# Altium integrated library Maxim Interface, Interconnect and Signal Integrity.IntLib: 11 symbols
Pins are listed as number, name and electrical type; pins without a type are passive.

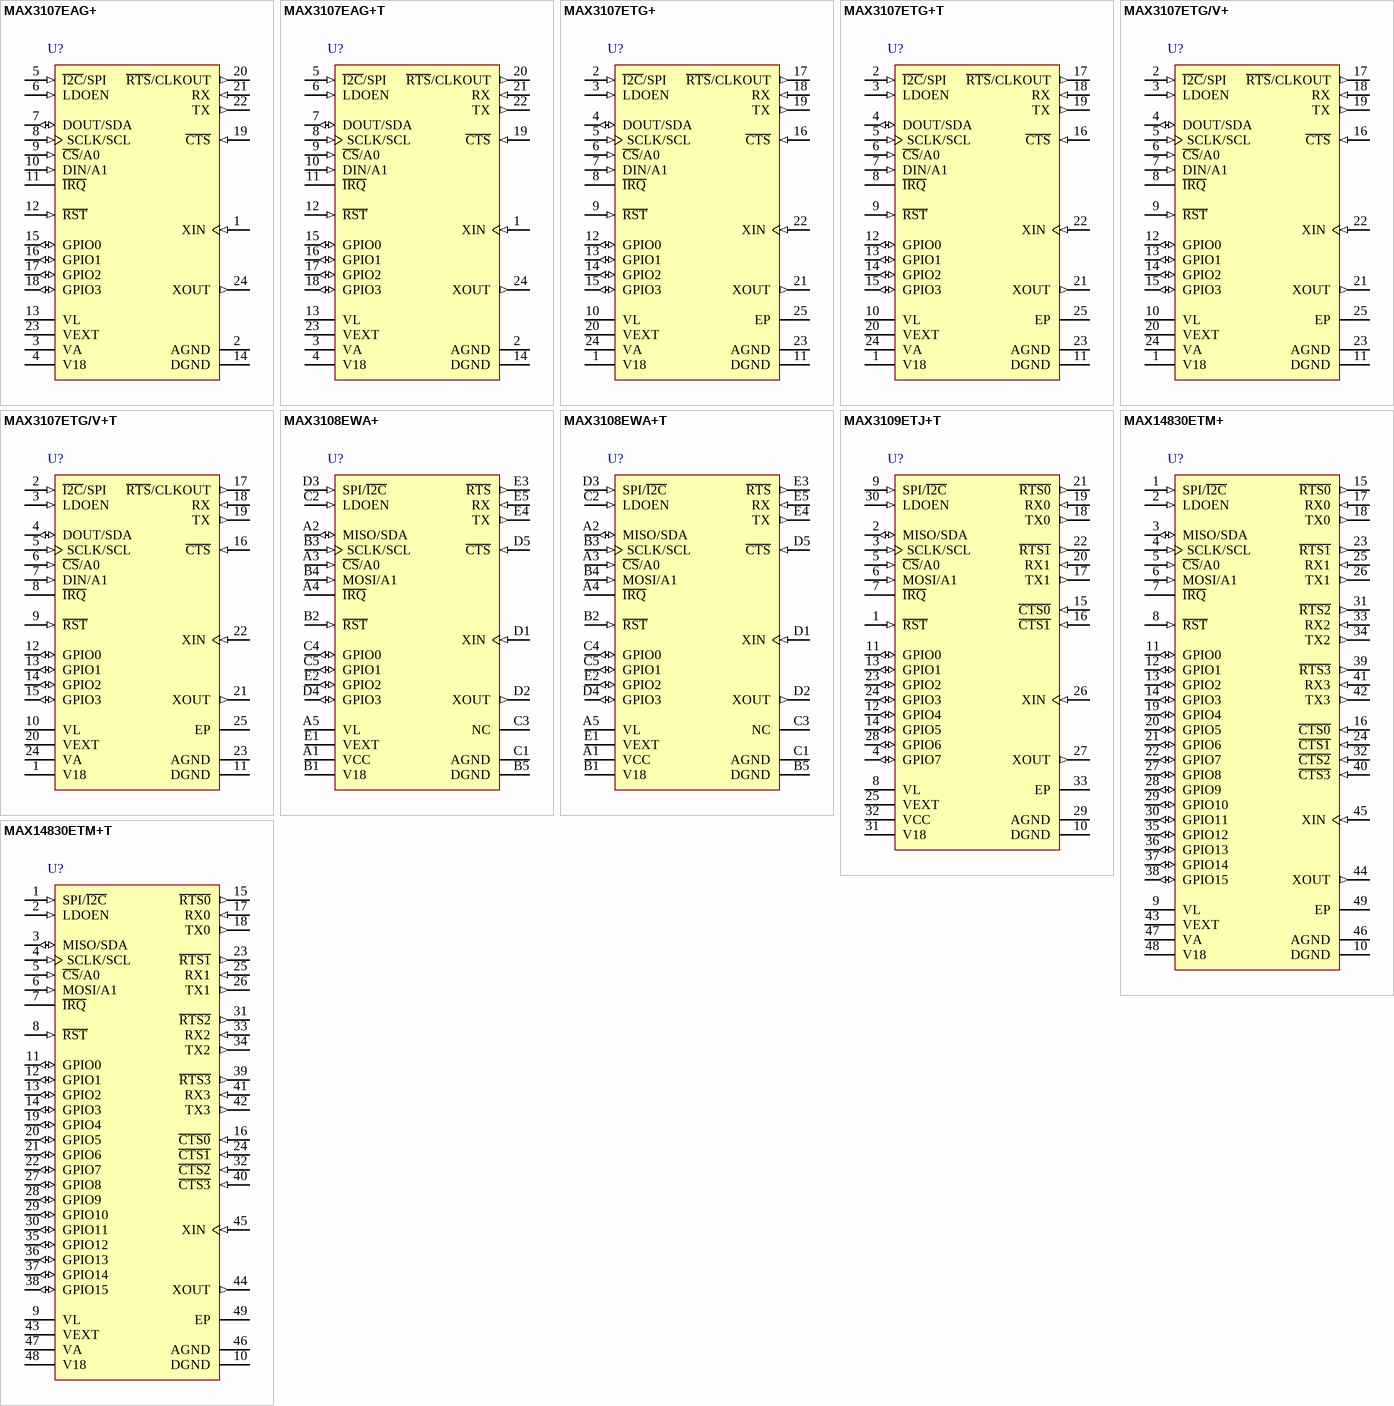
[diagram p0: symbols MAX3107EAG+ to MAX14830ETM+T]

## MAX3107EAG+
designator U?
SPI/I2C UART with 128-Word FIFO, 24-Pin SSOP, -40°C to +85°C, Pb-Free; DatasheetVersion: Rev 3, Aug-2011; PackageVersion: revC, 2010; PackageReference: A24+1; PackageDescription: 24-Pin Shrink Small-Outline Package (SSOP), 5.3 mm Body, 0.65 mm Pitch, Pb-Free; Code_JEDEC: MO-150-AG; ComponentLink1Description: Manufacturer URL; ComponentLink1URL: http://www.maxim-ic.com; ComponentLink2Description: Datasheet; ComponentLink2URL: http://datasheets.maxim-ic.com/en/ds/MAX3107.pdf; ComponentLink3Description: Package Specification; ComponentLink3URL: http://pdfserv.maxim-ic.com/package_dwgs/21-0056.PDF
footprint A24+1_N (SOP, 24-Leads, Body 8.2x5.3mm, Pitch 0.65mm, IPC Medium Density)
footprint A24+1_L (SOP, 24-Leads, Body 8.2x5.3mm, Pitch 0.65mm, IPC High Density)
footprint A24+1_M (SOP, 24-Leads, Body 8.2x5.3mm, Pitch 0.65mm, IPC Low Density)
pins: 1 XIN (in), 2 AGND (power), 3 VA (power), 4 V18 (power), 5 ~{I2C}/SPI (in), 6 LDOEN (in), 7 DOUT/SDA (io), 8 SCLK/SCL (in), 9 ~{CS}/A0 (in), 10 DIN/A1 (in), 11 ~{IRQ} (oc), 12 ~{RST} (in), 13 VL (power), 14 DGND (power), 15 GPIO0 (io), 16 GPIO1 (io), 17 GPIO2 (io), 18 GPIO3 (io), 19 ~{CTS} (in), 20 ~{RTS}/CLKOUT (out), 21 RX (in), 22 TX (out), 23 VEXT (power), 24 XOUT (out)

## MAX3107EAG+T
designator U?
SPI/I2C UART with 128-Word FIFO, 24-Pin SSOP, -40°C to +85°C, Pb-Free, Tape and Reel; DatasheetVersion: Rev 3, Aug-2011; PackageVersion: revC, 2010; PackageReference: A24+1; PackageDescription: 24-Pin Shrink Small-Outline Package (SSOP), 5.3 mm Body, 0.65 mm Pitch, Pb-Free; Code_JEDEC: MO-150-AG; ComponentLink1Description: Manufacturer URL; ComponentLink1URL: http://www.maxim-ic.com; ComponentLink2Description: Datasheet; ComponentLink2URL: http://datasheets.maxim-ic.com/en/ds/MAX3107.pdf; ComponentLink3Description: Package Specification; ComponentLink3URL: http://pdfserv.maxim-ic.com/package_dwgs/21-0056.PDF
footprint A24+1_N (SOP, 24-Leads, Body 8.2x5.3mm, Pitch 0.65mm, IPC Medium Density)
footprint A24+1_L (SOP, 24-Leads, Body 8.2x5.3mm, Pitch 0.65mm, IPC High Density)
footprint A24+1_M (SOP, 24-Leads, Body 8.2x5.3mm, Pitch 0.65mm, IPC Low Density)
pins: 1 XIN (in), 2 AGND (power), 3 VA (power), 4 V18 (power), 5 ~{I2C}/SPI (in), 6 LDOEN (in), 7 DOUT/SDA (io), 8 SCLK/SCL (in), 9 ~{CS}/A0 (in), 10 DIN/A1 (in), 11 ~{IRQ} (oc), 12 ~{RST} (in), 13 VL (power), 14 DGND (power), 15 GPIO0 (io), 16 GPIO1 (io), 17 GPIO2 (io), 18 GPIO3 (io), 19 ~{CTS} (in), 20 ~{RTS}/CLKOUT (out), 21 RX (in), 22 TX (out), 23 VEXT (power), 24 XOUT (out)

## MAX3107ETG+
designator U?
SPI/I2C UART with 128-Word FIFO, 24-Pin TQFN, -40°C to +85°C, Pb-Free; DatasheetVersion: Rev 3, Aug-2011; PackageVersion: revC, 2010; PackageReference: T243A3+1; PackageDescription: 24-Pin Thin Quad Flatpack, No Leads, 3.5 x 3.5 x 0.75 mm Body, 0.4 mm Pitch, TQFN, Pb-Free; Code_JEDEC: MO-220*; ComponentLink1Description: Manufacturer URL; ComponentLink1URL: http://www.maxim-ic.com; ComponentLink2Description: Datasheet; ComponentLink2URL: http://datasheets.maxim-ic.com/en/ds/MAX3107.pdf; ComponentLink3Description: Package Specification; ComponentLink3URL: http://pdfserv.maxim-ic.com/package_dwgs/21-0188.PDF
footprint T243A3+1_N (QFN, 24-Leads, Body 3.5x3.5mm, Pitch 0.4mm, Thermal Pad 2.3x2.3mm, IPC Medium Density)
footprint T243A3+1_L (QFN, 24-Leads, Body 3.5x3.5mm, Pitch 0.4mm, Thermal Pad 2.3x2.3mm, IPC High Density)
footprint T243A3+1_M (QFN, 24-Leads, Body 3.5x3.5mm, Pitch 0.4mm, Thermal Pad 2.3x2.3mm, IPC Low Density)
pins: 1 V18 (power), 2 ~{I2C}/SPI (in), 3 LDOEN (in), 4 DOUT/SDA (io), 5 SCLK/SCL (in), 6 ~{CS}/A0 (in), 7 DIN/A1 (in), 8 ~{IRQ} (oc), 9 ~{RST} (in), 10 VL (power), 11 DGND (power), 12 GPIO0 (io), 13 GPIO1 (io), 14 GPIO2 (io), 15 GPIO3 (io), 16 ~{CTS} (in), 17 ~{RTS}/CLKOUT (out), 18 RX (in), 19 TX (out), 20 VEXT (power), 21 XOUT (out), 22 XIN (in), 23 AGND (power), 24 VA (power), 25 EP (power)

## MAX3107ETG+T
designator U?
SPI/I2C UART with 128-Word FIFO, 24-Pin TQFN, -40°C to +85°C, Pb-Free, Tape and Reel; DatasheetVersion: Rev 3, Aug-2011; PackageVersion: revC, 2010; PackageReference: T243A3+1; PackageDescription: 24-Pin Thin Quad Flatpack, No Leads, 3.5 x 3.5 x 0.75 mm Body, 0.4 mm Pitch, TQFN, Pb-Free; Code_JEDEC: MO-220*; ComponentLink1Description: Manufacturer URL; ComponentLink1URL: http://www.maxim-ic.com; ComponentLink2Description: Datasheet; ComponentLink2URL: http://datasheets.maxim-ic.com/en/ds/MAX3107.pdf; ComponentLink3Description: Package Specification; ComponentLink3URL: http://pdfserv.maxim-ic.com/package_dwgs/21-0188.PDF
footprint T243A3+1_N (QFN, 24-Leads, Body 3.5x3.5mm, Pitch 0.4mm, Thermal Pad 2.3x2.3mm, IPC Medium Density)
footprint T243A3+1_L (QFN, 24-Leads, Body 3.5x3.5mm, Pitch 0.4mm, Thermal Pad 2.3x2.3mm, IPC High Density)
footprint T243A3+1_M (QFN, 24-Leads, Body 3.5x3.5mm, Pitch 0.4mm, Thermal Pad 2.3x2.3mm, IPC Low Density)
pins: 1 V18 (power), 2 ~{I2C}/SPI (in), 3 LDOEN (in), 4 DOUT/SDA (io), 5 SCLK/SCL (in), 6 ~{CS}/A0 (in), 7 DIN/A1 (in), 8 ~{IRQ} (oc), 9 ~{RST} (in), 10 VL (power), 11 DGND (power), 12 GPIO0 (io), 13 GPIO1 (io), 14 GPIO2 (io), 15 GPIO3 (io), 16 ~{CTS} (in), 17 ~{RTS}/CLKOUT (out), 18 RX (in), 19 TX (out), 20 VEXT (power), 21 XOUT (out), 22 XIN (in), 23 AGND (power), 24 VA (power), 25 EP (power)

## MAX3107ETG/V+
designator U?
SPI/I2C UART with 128-Word FIFO, Automotive Qualified, 24-Pin TQFN, -40°C to +85°C, Pb-Free; DatasheetVersion: Rev 3, Aug-2011; PackageVersion: revC, 2010; PackageReference: T243A3+1; PackageDescription: 24-Pin Thin Quad Flatpack, No Leads, 3.5 x 3.5 x 0.75 mm Body, 0.4 mm Pitch, TQFN, Pb-Free; Code_JEDEC: MO-220*; ComponentLink1Description: Manufacturer URL; ComponentLink1URL: http://www.maxim-ic.com; ComponentLink2Description: Datasheet; ComponentLink2URL: http://datasheets.maxim-ic.com/en/ds/MAX3107.pdf; ComponentLink3Description: Package Specification; ComponentLink3URL: http://pdfserv.maxim-ic.com/package_dwgs/21-0188.PDF
footprint T243A3+1_N (QFN, 24-Leads, Body 3.5x3.5mm, Pitch 0.4mm, Thermal Pad 2.3x2.3mm, IPC Medium Density)
footprint T243A3+1_L (QFN, 24-Leads, Body 3.5x3.5mm, Pitch 0.4mm, Thermal Pad 2.3x2.3mm, IPC High Density)
footprint T243A3+1_M (QFN, 24-Leads, Body 3.5x3.5mm, Pitch 0.4mm, Thermal Pad 2.3x2.3mm, IPC Low Density)
pins: 1 V18 (power), 2 ~{I2C}/SPI (in), 3 LDOEN (in), 4 DOUT/SDA (io), 5 SCLK/SCL (in), 6 ~{CS}/A0 (in), 7 DIN/A1 (in), 8 ~{IRQ} (oc), 9 ~{RST} (in), 10 VL (power), 11 DGND (power), 12 GPIO0 (io), 13 GPIO1 (io), 14 GPIO2 (io), 15 GPIO3 (io), 16 ~{CTS} (in), 17 ~{RTS}/CLKOUT (out), 18 RX (in), 19 TX (out), 20 VEXT (power), 21 XOUT (out), 22 XIN (in), 23 AGND (power), 24 VA (power), 25 EP (power)

## MAX3107ETG/V+T
designator U?
SPI/I2C UART with 128-Word FIFO, Automotive Qualified, 24-Pin TQFN, -40°C to +85°C, Pb-Free, Tape and Reel; DatasheetVersion: Rev 3, Aug-2011; PackageVersion: revC, 2010; PackageReference: T243A3+1; PackageDescription: 24-Pin Thin Quad Flatpack, No Leads, 3.5 x 3.5 x 0.75 mm Body, 0.4 mm Pitch, TQFN, Pb-Free; Code_JEDEC: MO-220*; ComponentLink1Description: Manufacturer URL; ComponentLink1URL: http://www.maxim-ic.com; ComponentLink2Description: Datasheet; ComponentLink2URL: http://datasheets.maxim-ic.com/en/ds/MAX3107.pdf; ComponentLink3Description: Package Specification; ComponentLink3URL: http://pdfserv.maxim-ic.com/package_dwgs/21-0188.PDF
footprint T243A3+1_N (QFN, 24-Leads, Body 3.5x3.5mm, Pitch 0.4mm, Thermal Pad 2.3x2.3mm, IPC Medium Density)
footprint T243A3+1_L (QFN, 24-Leads, Body 3.5x3.5mm, Pitch 0.4mm, Thermal Pad 2.3x2.3mm, IPC High Density)
footprint T243A3+1_M (QFN, 24-Leads, Body 3.5x3.5mm, Pitch 0.4mm, Thermal Pad 2.3x2.3mm, IPC Low Density)
pins: 1 V18 (power), 2 ~{I2C}/SPI (in), 3 LDOEN (in), 4 DOUT/SDA (io), 5 SCLK/SCL (in), 6 ~{CS}/A0 (in), 7 DIN/A1 (in), 8 ~{IRQ} (oc), 9 ~{RST} (in), 10 VL (power), 11 DGND (power), 12 GPIO0 (io), 13 GPIO1 (io), 14 GPIO2 (io), 15 GPIO3 (io), 16 ~{CTS} (in), 17 ~{RTS}/CLKOUT (out), 18 RX (in), 19 TX (out), 20 VEXT (power), 21 XOUT (out), 22 XIN (in), 23 AGND (power), 24 VA (power), 25 EP (power)

## MAX3108EWA+
designator U?
SPI/I2C UART with 128-Word FIFO, 25-Pin WLP, -40°C to +85°C, Pb-Free; DatasheetVersion: Rev 1, Feb-2011; PackageVersion: revE, Apr-2010; PackageReference: W252B2+1; PackageDescription: 25-Ball Wafer-Level Package 5x5 Bump, Full Array (WLP) 0.4 mm Pitch, Pb-Free; ComponentLink1Description: Manufacturer URL; ComponentLink1URL: http://www.maxim-ic.com; ComponentLink2Description: Datasheet; ComponentLink2URL: http://datasheets.maxim-ic.com/en/ds/MAX3108.pdf; ComponentLink3Description: Package Specification; ComponentLink3URL: http://pdfserv.maxim-ic.com/package_dwgs/21-0180.PDF
footprint W252B2+1 (BGA, 25-Leads, Body 2.07x2.07mm, Pitch 0.4mm)
pins: A1 VCC (power), A2 MISO/SDA (io), A3 ~{CS}/A0 (in), A4 ~{IRQ} (oc), A5 VL (power), B1 V18 (power), B2 ~{RST} (in), B3 SCLK/SCL (in), B4 MOSI/A1 (in), B5 DGND (power), C1 AGND (power), C2 LDOEN (in), C3 NC, C4 GPIO0 (io), C5 GPIO1 (io), D1 XIN (in), D2 XOUT (out), D3 SPI/~{I2C} (in), D4 GPIO3 (io), D5 ~{CTS} (in), E1 VEXT (power), E2 GPIO2 (io), E3 ~{RTS} (out), E4 TX (out), E5 RX (in)

## MAX3108EWA+T
designator U?
SPI/I2C UART with 128-Word FIFO, 25-Pin WLP, -40°C to +85°C, Pb-Free, Tape and Reel; DatasheetVersion: Rev 1, Feb-2011; PackageVersion: revE, Apr-2010; PackageReference: W252B2+1; PackageDescription: 25-Ball Wafer-Level Package 5x5 Bump, Full Array (WLP) 0.4 mm Pitch, Pb-Free; ComponentLink1Description: Manufacturer URL; ComponentLink1URL: http://www.maxim-ic.com; ComponentLink2Description: Datasheet; ComponentLink2URL: http://datasheets.maxim-ic.com/en/ds/MAX3108.pdf; ComponentLink3Description: Package Specification; ComponentLink3URL: http://pdfserv.maxim-ic.com/package_dwgs/21-0180.PDF
footprint W252B2+1 (BGA, 25-Leads, Body 2.07x2.07mm, Pitch 0.4mm)
pins: A1 VCC (power), A2 MISO/SDA (io), A3 ~{CS}/A0 (in), A4 ~{IRQ} (oc), A5 VL (power), B1 V18 (power), B2 ~{RST} (in), B3 SCLK/SCL (in), B4 MOSI/A1 (in), B5 DGND (power), C1 AGND (power), C2 LDOEN (in), C3 NC, C4 GPIO0 (io), C5 GPIO1 (io), D1 XIN (in), D2 XOUT (out), D3 SPI/~{I2C} (in), D4 GPIO3 (io), D5 ~{CTS} (in), E1 VEXT (power), E2 GPIO2 (io), E3 ~{RTS} (out), E4 TX (out), E5 RX (in)

## MAX3109ETJ+T
designator U?
Dual Serial UART with 128-Word FIFO, 32-Pin TQFN, -40°C to +85°C, Pb-Free, Tape and Reel; DatasheetVersion: Rev 0, Mar-2011; PackageVersion: revO, 2011; PackageReference: T3255+4; PackageDescription: 32-Pin Thin Quad Flatpack, No Leads, 5 x 5 x 0.75 mm Body, 0.5 mm Pitch, TQFN, Pb-Free; Code_JEDEC: MO-220-WHHD-2; ComponentLink1Description: Manufacturer URL; ComponentLink1URL: http://www.maxim-ic.com; ComponentLink2Description: Datasheet; ComponentLink2URL: http://datasheets.maxim-ic.com/en/ds/MAX3109.pdf; ComponentLink3Description: Package Specification; ComponentLink3URL: http://pdfserv.maxim-ic.com/package_dwgs/21-0140.PDF
footprint T3255+4_N (QFN, 32-Leads, Body 5x5mm, Pitch 0.5mm, Thermal Pad 3.2x3.2mm, IPC Medium Density)
footprint T3255+4_L (QFN, 32-Leads, Body 5x5mm, Pitch 0.5mm, Thermal Pad 3.2x3.2mm, IPC High Density)
footprint T3255+4_M (QFN, 32-Leads, Body 5x5mm, Pitch 0.5mm, Thermal Pad 3.2x3.2mm, IPC Low Density)
pins: 1 ~{RST} (in), 2 MISO/SDA (io), 3 SCLK/SCL (in), 4 GPIO7 (io), 5 ~{CS}/A0 (in), 6 MOSI/A1 (in), 7 ~{IRQ} (oc), 8 VL (power), 9 SPI/~{I2C} (in), 10 DGND (power), 11 GPIO0 (io), 12 GPIO4 (io), 13 GPIO1 (io), 14 GPIO5 (io), 15 ~{CTS0} (in), 16 ~{CTS1} (in), 17 TX1 (out), 18 TX0 (out), 19 RX0 (in), 20 RX1 (in), 21 ~{RTS0} (out), 22 ~{RTS1} (out), 23 GPIO2 (io), 24 GPIO3 (io), 25 VEXT (power), 26 XIN (in), 27 XOUT (out), 28 GPIO6 (io), 29 AGND (power), 30 LDOEN (in), 31 V18 (power), 32 VCC (power), 33 EP (power)

## MAX14830ETM+
designator U?
Quad Serial UART with 128-Word FIFO, 48-Pin TQFN, -40°C to +85°C, Pb-Free; DatasheetVersion: Rev 2, Sep-2011; PackageVersion: revI, 2009; PackageReference: T4877+3; PackageDescription: 48-Pin Thin Quad Flatpack, No Leads, 7 x 7 x 0.75 mm Body, 0.5 mm Pitch, TQFN, Pb-Free; ComponentLink1Description: Manufacturer URL; ComponentLink1URL: http://www.maxim-ic.com; ComponentLink2Description: Datasheet; ComponentLink2URL: http://datasheets.maxim-ic.com/en/ds/MAX14830.pdf; ComponentLink3Description: Package Specification; ComponentLink3URL: http://pdfserv.maxim-ic.com/package_dwgs/21-0144.PDF
footprint T4877+3_N (QFN, 48-Leads, Body 7x7mm, Pitch 0.5mm, Thermal Pad 5.3x5.3mm, IPC Medium Density)
footprint T4877+3_L (QFN, 48-Leads, Body 7x7mm, Pitch 0.5mm, Thermal Pad 5.3x5.3mm, IPC High Density)
footprint T4877+3_M (QFN, 48-Leads, Body 7x7mm, Pitch 0.5mm, Thermal Pad 5.3x5.3mm, IPC Low Density)
pins: 1 SPI/~{I2C} (in), 2 LDOEN (in), 3 MISO/SDA (io), 4 SCLK/SCL (in), 5 ~{CS}/A0 (in), 6 MOSI/A1 (in), 7 ~{IRQ} (oc), 8 ~{RST} (in), 9 VL (power), 10 DGND (power), 11 GPIO0 (io), 12 GPIO1 (io), 13 GPIO2 (io), 14 GPIO3 (io), 15 ~{RTS0} (out), 16 ~{CTS0} (in), 17 RX0 (in), 18 TX0 (out), 19 GPIO4 (io), 20 GPIO5 (io), 21 GPIO6 (io), 22 GPIO7 (io), 23 ~{RTS1} (out), 24 ~{CTS1} (in), 25 RX1 (in), 26 TX1 (out), 27 GPIO8 (io), 28 GPIO9 (io), 29 GPIO10 (io), 30 GPIO11 (io), 31 ~{RTS2} (out), 32 ~{CTS2} (in), 33 RX2 (in), 34 TX2 (out), 35 GPIO12 (io), 36 GPIO13 (io), 37 GPIO14 (io), 38 GPIO15 (io), 39 ~{RTS3} (out), 40 ~{CTS3} (in), 41 RX3 (in), 42 TX3 (out), 43 VEXT (power), 44 XOUT (out), 45 XIN (in), 46 AGND (power), 47 VA (power), 48 V18 (power), 49 EP (power)

## MAX14830ETM+T
designator U?
Quad Serial UART with 128-Word FIFO, 48-Pin TQFN, -40°C to +85°C, Pb-Free, Tape and Reel; DatasheetVersion: Rev 2, Sep-2011; PackageVersion: revI, 2009; PackageReference: T4877+3; PackageDescription: 48-Pin Thin Quad Flatpack, No Leads, 7 x 7 x 0.75 mm Body, 0.5 mm Pitch, TQFN, Pb-Free; ComponentLink1Description: Manufacturer URL; ComponentLink1URL: http://www.maxim-ic.com; ComponentLink2Description: Datasheet; ComponentLink2URL: http://datasheets.maxim-ic.com/en/ds/MAX14830.pdf; ComponentLink3Description: Package Specification; ComponentLink3URL: http://pdfserv.maxim-ic.com/package_dwgs/21-0144.PDF
footprint T4877+3_N (QFN, 48-Leads, Body 7x7mm, Pitch 0.5mm, Thermal Pad 5.3x5.3mm, IPC Medium Density)
footprint T4877+3_L (QFN, 48-Leads, Body 7x7mm, Pitch 0.5mm, Thermal Pad 5.3x5.3mm, IPC High Density)
footprint T4877+3_M (QFN, 48-Leads, Body 7x7mm, Pitch 0.5mm, Thermal Pad 5.3x5.3mm, IPC Low Density)
pins: 1 SPI/~{I2C} (in), 2 LDOEN (in), 3 MISO/SDA (io), 4 SCLK/SCL (in), 5 ~{CS}/A0 (in), 6 MOSI/A1 (in), 7 ~{IRQ} (oc), 8 ~{RST} (in), 9 VL (power), 10 DGND (power), 11 GPIO0 (io), 12 GPIO1 (io), 13 GPIO2 (io), 14 GPIO3 (io), 15 ~{RTS0} (out), 16 ~{CTS0} (in), 17 RX0 (in), 18 TX0 (out), 19 GPIO4 (io), 20 GPIO5 (io), 21 GPIO6 (io), 22 GPIO7 (io), 23 ~{RTS1} (out), 24 ~{CTS1} (in), 25 RX1 (in), 26 TX1 (out), 27 GPIO8 (io), 28 GPIO9 (io), 29 GPIO10 (io), 30 GPIO11 (io), 31 ~{RTS2} (out), 32 ~{CTS2} (in), 33 RX2 (in), 34 TX2 (out), 35 GPIO12 (io), 36 GPIO13 (io), 37 GPIO14 (io), 38 GPIO15 (io), 39 ~{RTS3} (out), 40 ~{CTS3} (in), 41 RX3 (in), 42 TX3 (out), 43 VEXT (power), 44 XOUT (out), 45 XIN (in), 46 AGND (power), 47 VA (power), 48 V18 (power), 49 EP (power)